# Altium footprint library LM1117.PcbLib: 1 footprints
Each footprint in its own frame and in the unit in brackets; x right, y up, seen from the top. Pads: shape width x height; smd on the part's side, far side on the other; paste and mask are expansions set on the pad; w line width, h text height; cw(c..) or ccw(c..) is an arc to the next point about the centre after c.
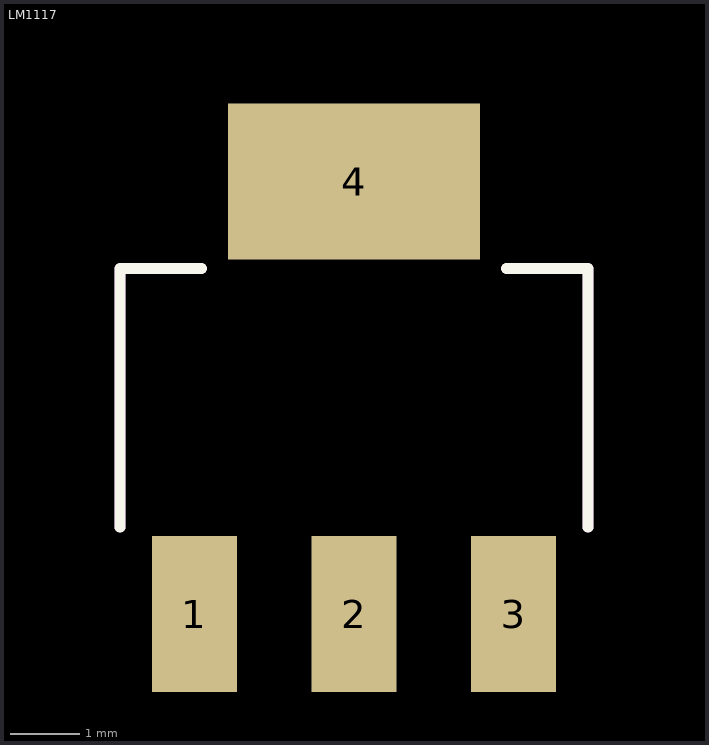
[diagram p0: the footprint, top view; thin cyan lines are the x and y axes]

## LM1117 [mil]
pads (4):
  rect 48x88 smd: 1(305,125) 2(395,125) 3(485,125)
  rect 142x88 smd: 4(395,369)
Top Overlay:
  lines w6: 263,174 263,320 309,320 ; 481,320 527,320 527,174
Mechanical 1:
  lines w6: 263,174 263,320 309,320 ; 481,320 527,320 527,174